# Altium schematic symbol library BQ25060.SchLib: 1 symbol
Pins are listed as number, name and electrical type; pins without a type are passive.

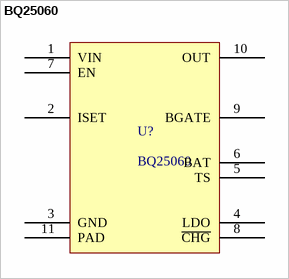
[diagram p0: symbol BQ25060]

## BQ25060
designator U?
Li-Ion standalone charger, TI
footprint SON50P200X80_HS-11N (SON, 10-Leads, Body 3.00x2.00mm, Pitch 0.50mm, Thermal Pad 2.40x0.79mm, IPC Medium Density)
pins: 1 VIN, 2 ISET, 3 GND, 4 LDO, 5 TS, 6 BAT, 7 EN, 8 ~{CHG}, 9 BGATE, 10 OUT, 11 PAD